# Altium footprint library HDR-TH_6P-P2.54-V-M.PcbLib: 1 footprints
Each footprint in its own frame and in the unit in brackets; x right, y up, seen from the top. Pads: shape width x height; smd on the part's side, far side on the other; paste and mask are expansions set on the pad; w line width, h text height; cw(c..) or ccw(c..) is an arc to the next point about the centre after c.
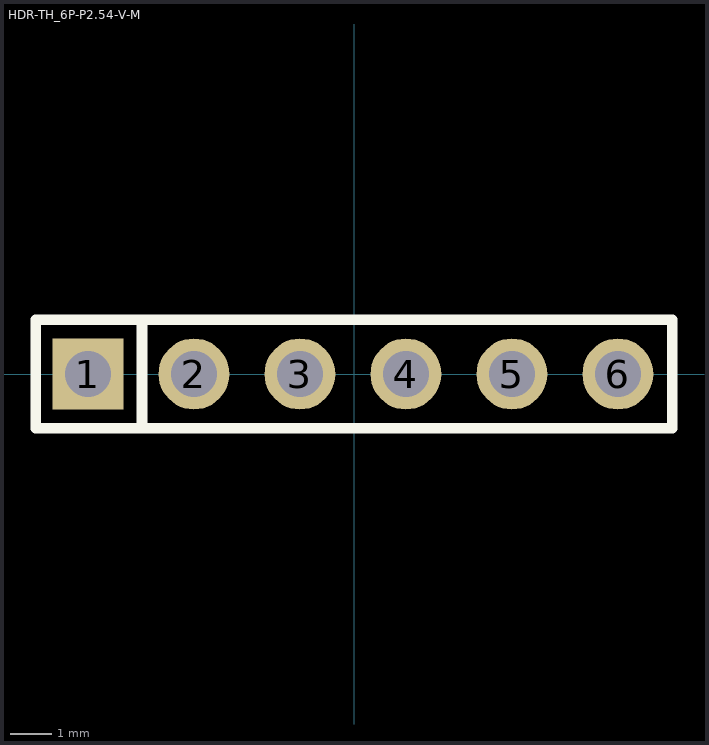
[diagram p0: the footprint, top view; thin cyan lines are the x and y axes]

## HDR-TH_6P-P2.54-V-M [mm]
pads (6):
  rect 1.7x1.7 hole 1.1 paste-2539.97 mask+0.051: 1(-6.375,0)
  round 1.7 hole 1.1 paste-2539.97 mask+0.051: 2(-3.835,0) 3(-1.295,0) 4(1.245,0) 5(3.785,0) 6(6.325,0)
Top Overlay:
  lines w0.254: -5.081,-1.27 -5.081,1.27 ; -7.625,-1.3 -7.625,1.3 7.625,1.3 7.625,-1.3 -7.625,-1.3